# Altium footprint library 智能车主板.PcbLib: 40 footprints (part 3 of 3)
Each footprint in its own frame and in the unit in brackets; x right, y up, seen from the top. Pads: shape width x height; smd on the part's side, far side on the other; paste and mask are expansions set on the pad; w line width, h text height; cw(c..) or ccw(c..) is an arc to the next point about the centre after c.
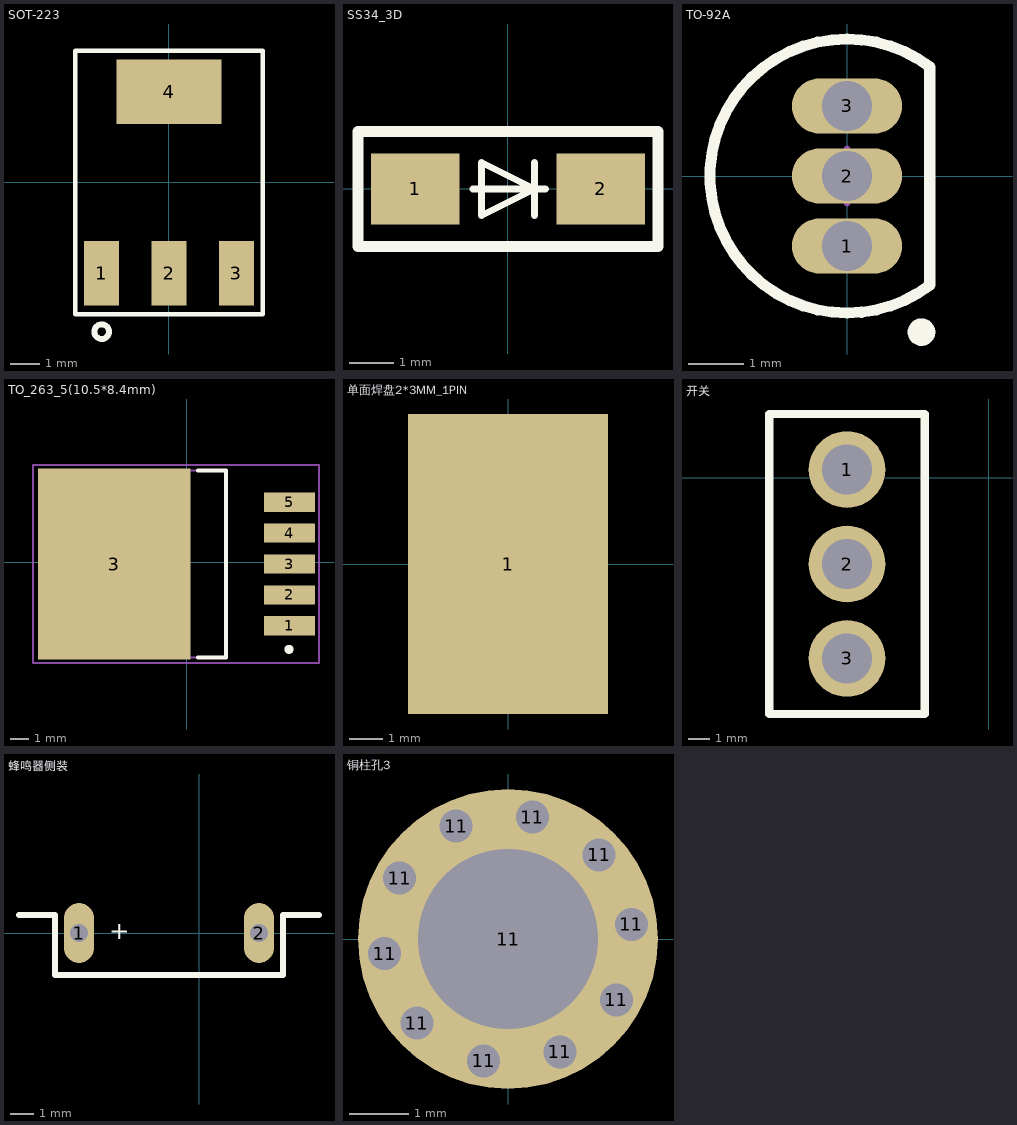
[diagram p2: the footprints below, top view; thin cyan lines are the x and y axes]

## SOT-223 [mm]
pads (4):
  rect 1.2x2.2 smd: 1(-2.3,-3.1) 2(0,-3.1) 3(2.3,-3.1)
  rect 3.6x2.2 smd: 4(0,3.1)
Top Overlay:
  circle w0.2: c-2.3,-5.1 r0.25
  lines w0.15: -3.2,-4.5 -3.2,4.5 3.2,4.5 3.2,-4.5 -3,-4.5 -3.2,-4.5

## SS34_3D [mm]
height 2.5
pads (2):
  rect 2x1.6 smd: 1(-2.1,0) 2(2.1,0)
Top Overlay:
  lines w0.152: -0.8,0 0.85,0 ; 0.6,-0.6 0.6,0 ; 0.6,0.6 0.6,0 ; 0.6,0 -0.6,0.6 -0.6,0 -0.6,-0.6 0.6,0
  lines w0.254: -3.4,-1.3 -3.4,1.3 3.4,1.3 3.4,-1.3 -3.4,-1.3
3D body "User Library-DO-214AC_SMA.step": height 2.15, standoff -0.05, extent -2.46,-1.36 2.54,1.34

## TO-92A [mm] "TO, Flat Index; 3 In-Line, Axial Leads; Body Dia. 4.5mm; Leads 0.51 x 0.48 mm (max)"
height 6.86
pads (3):
  oval 2x1 hole 0.9: 1(0,-1.27) 2(0,0) 3(0,1.27)
Top Overlay:
  circle w0.25: c1.35,-2.83 r0.125
  lines w0.2: 1.5,-1.98 cw(c0,0) 1.5,1.98 1.5,-1.98
Mechanical 13:
  lines w0.1: 1.5,-1.98 cw(c0,0) 1.5,1.98 1.5,-1.98
Mechanical 15:
  lines w0.1: -0.5,0 0.5,0 ; 0,-0.5 0,0.5
3D body: height 6.86, standoff 2.2, extent -2.485,-2.495 1.501,2.495

## TO_263_5(10.5*8.4mm) [mm] "D2-PAK, 6-Pads, Body 8.8x10.3mm (max), IPC Medium Density"
height 4.46
pads (6):
  rect 2.8x1.05 smd: 1(5.65,-3.5) 2(5.65,-1.8) 3(5.65,-0.1) 4(5.65,1.6) 5(5.65,3.3)
  rect 8.4x10.5 smd: 3(-4,-0.1)
Top Overlay:
  circle w0.25: c5.625,-4.8 r0.125
  lines w0.2: 0.6,-5.25 2.15,-5.25 2.15,5.05 0.6,5.05
Mechanical 13:
  lines w0.1: -6.65,-5.25 2.15,-5.25 2.15,5.05 -6.65,5.05 -6.65,-5.25
Mechanical 15:
  lines w0.1: -1.1,-0.1 -0.1,-0.1 ; -0.6,-0.6 -0.6,0.4 ; -8.475,-5.55 7.275,-5.55 7.275,5.35 -8.475,5.35 -8.475,-5.55
3D body "SW3dPS-TO263-5.STEP": height -0.38, standoff -5.18, extent -8.635,-5.1 7.035,4.9

## 单面焊盘2*3MM_1PIN [mm]
height 2.5
pads (1):
  rect 6x9 smd: 1(0,0)

## 开关 [mil]
height 98.43
pads (3):
  round 137.8 hole 90: 1(-255,15) 2(-255,-155) 3(-255,-325)
Top Overlay:
  lines w15: -395,-425 -115,-425 -115,115 -395,115 -395,-425

## 蜂鸣器侧装 [mil]
height 98.43
pads (2):
  oval 50x100 hole 30: 1(-200,0) 2(100,0)
Top Overlay:
  lines w10: -300,30 -290,30 -240,30 -240,-20 -240,-70 140,-70 140,-20 140,30 200,30
  text "+" at -150,-10 h30

## 铜柱孔3 [mil]
height 35.43
pads (11):
  round 23 hole 22: 11(-82.21,-9.67) 11(-72.19,40.5) 11(-60.83,-56.14) 11(-34.6,75.2) 11(-16.21,-81.17) 11(16.21,81.17) 11(34.6,-75.2) 11(60.83,56.14) 11(72.19,-40.5) 11(82.21,9.67)
  round 200 hole 120: 11(0,0)